# Altium footprint library PCB_General.PcbLib: 58 footprints (part 3 of 4)
Each footprint in its own frame and in the unit in brackets; x right, y up, seen from the top. Pads: shape width x height; smd on the part's side, far side on the other; paste and mask are expansions set on the pad; w line width, h text height; cw(c..) or ccw(c..) is an arc to the next point about the centre after c.
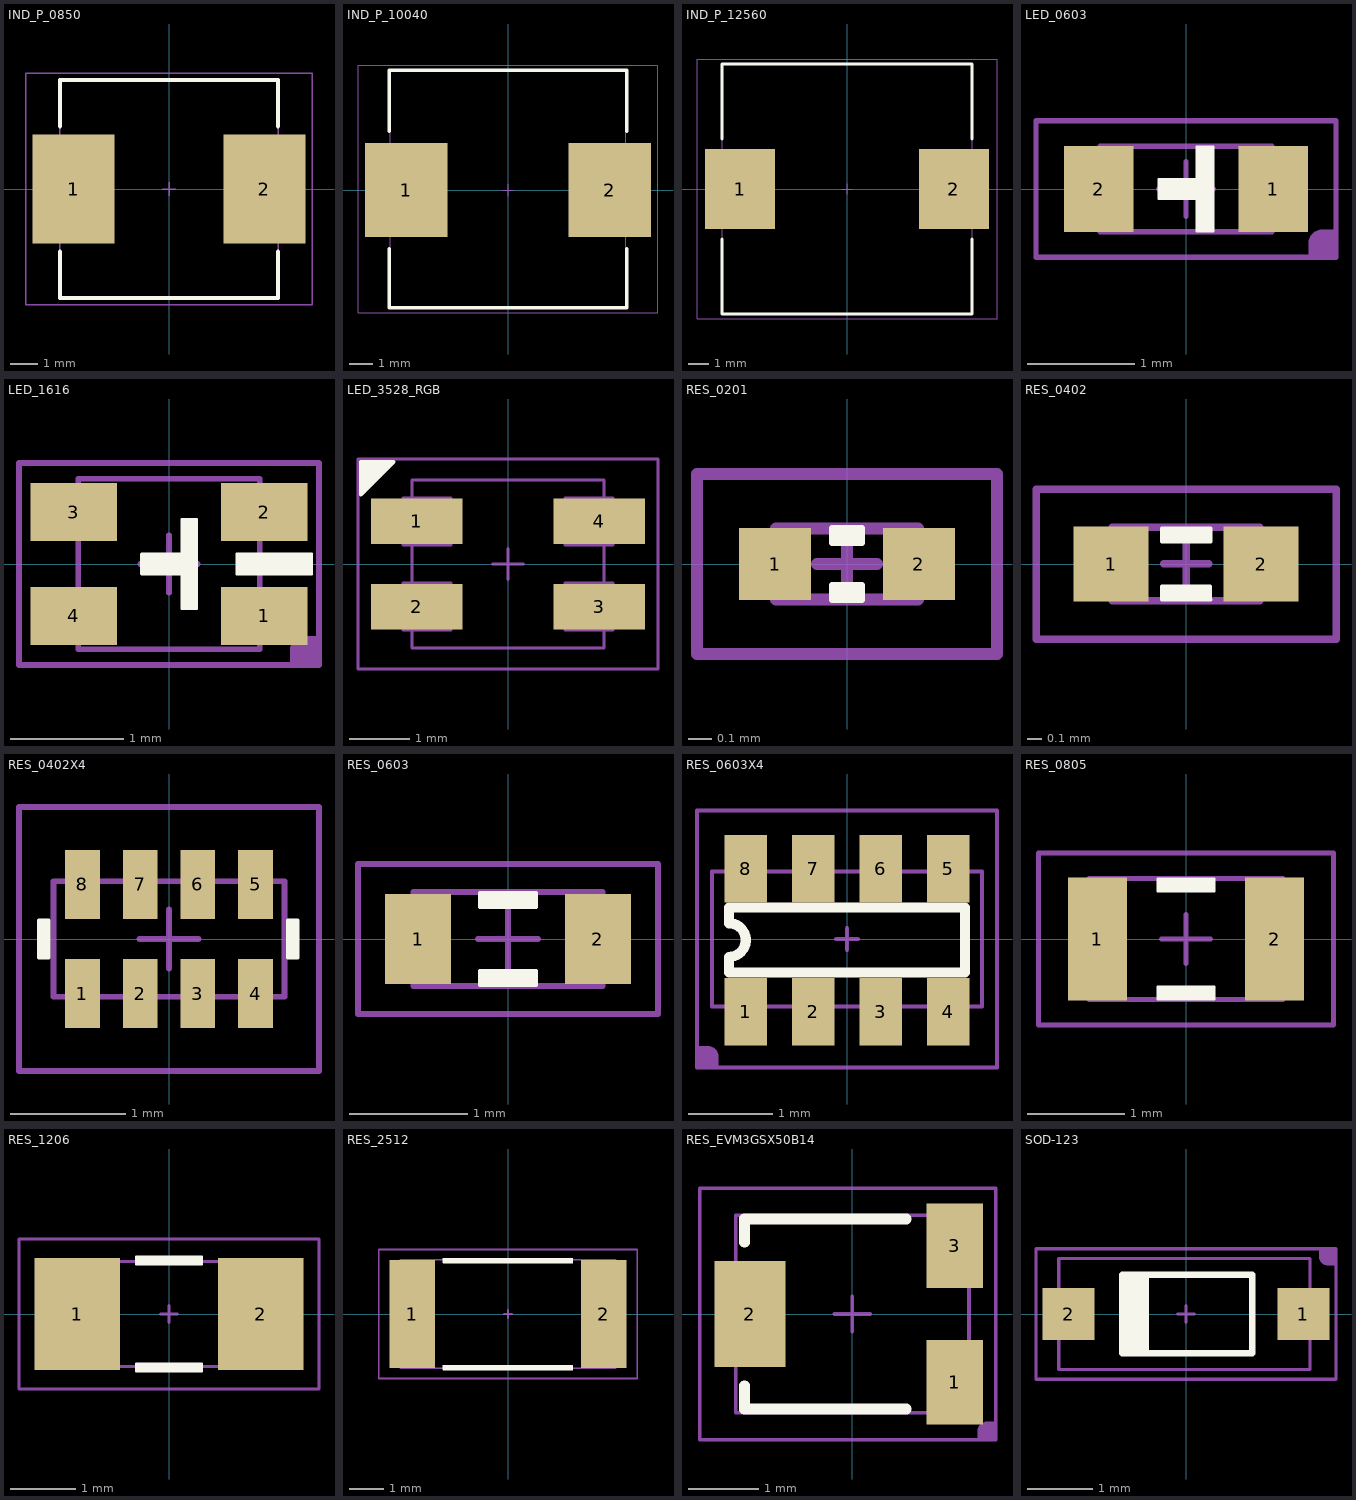
[diagram p2: the footprints below, top view; thin cyan lines are the x and y axes]

## IND_P_0850 [mm] "7.8*7.5*5.0MM(长*宽*高)"
pads (2):
  rect 3x4 smd: 1(-3.5,0) 2(3.5,0)
Top Overlay:
  lines w0.15: -4,-2.3 -4,-4 4,-4 4,-2.3 ; -4,2.3 -4,4 4,4 4,2.3
Top Assembly (Mech13):
  lines w0.051: -0.254,0 0.254,0 ; 0,-0.254 0,0.254 ; -4,-4 -4,4 4,4 4,-4 -4,-4
Top Component:
  lines w0.051: -5.25,-4.25 5.25,-4.25 5.25,4.25 -5.25,4.25 -5.25,-4.25
  text ".Designator" at -1.905,-0.508 h2.03
3D body: height 3, standoff 0, extent -4,-4 4,4

## IND_P_10040 [mm] "10.1*11.6*4.0MM(长*宽*高)"
pads (2):
  rect 3.5x4 smd: 1(-4.326,0) 2(4.326,0)
Top Overlay:
  lines w0.15: -5.051,-2.5 -5.051,-5 5.049,-5 5.049,-2.5 ; -5.051,2.5 -5.051,5.1 5.049,5.1 5.049,2.5
Top Assembly (Mech13):
  lines w0.051: -0.254,0 0.254,0 ; 0,-0.254 0,0.254 ; -5,-5 -5,5.075 5,5.075 5,-5 -5,-5
Top Component:
  lines w0.051: -6.375,-5.2 -6.375,5.3 6.375,5.3 6.375,-5.2 -6.375,-5.2
  text ".Designator" at -1.905,-0.508 h2.03
3D body: height 4, standoff 0, extent -5,-5 5,5.075

## IND_P_12560 [mm] "12.5*12.8*6.0MM(长*宽*高)"
pads (2):
  rect 3.5x4 smd: 1(-5.35,0) 2(5.35,0)
Top Overlay:
  lines w0.15: -6.25,-2.5 -6.25,-6.25 6.25,-6.25 6.25,-2.5 ; -6.25,2.5 -6.25,6.25 6.25,6.25 6.25,2.5
Top Assembly (Mech13):
  lines w0.051: -0.254,0 0.254,0 ; 0,-0.254 0,0.254 ; -6.25,-6.25 -6.25,6.25 6.25,6.25 6.25,-6.25 -6.25,-6.25
Top Component:
  lines w0.051: -7.5,-6.5 -7.5,6.5 7.5,6.5 7.5,-6.5 -7.5,-6.5
  text ".Designator" at -1.905,-0.508 h2.03
3D body: height 6, standoff 0, extent -6.25,-6.25 6.25,6.25

## LED_0603 [mm]
height 0.8
pads (2):
  rect 0.65x0.8 smd: 1(0.813,0) 2(-0.813,0)
Top Overlay:
  region: 0.254,-0.394 0.102,-0.394 0.102,-0.089 -0.254,-0.089 -0.254,0.089 0.102,0.089 0.102,0.394 0.254,0.394
  lines w0.025: -0.254,-0.089 0.102,-0.089 0.102,-0.394 0.254,-0.394 0.254,0.394 0.102,0.394 0.102,0.089 -0.254,0.089 -0.254,-0.089
Top Assembly (Mech13):
  lines w0.051: -0.254,0 0.254,0 ; 0,-0.254 0,0.254 ; -0.8,-0.4 0.8,-0.4 0.8,0.4 -0.8,0.4 -0.8,-0.4
Top Component:
  region: 1.397,-0.635 1.143,-0.635 1.143,-0.508 1.143,-0.483 1.162,-0.436 1.198,-0.4 1.245,-0.381 1.27,-0.381 1.397,-0.381
  lines w0.051: -1.397,-0.635 -1.397,0.635 1.397,0.635 1.397,-0.635 -1.397,-0.635
  text ".Designator" at -1.27,-0.381 h1.52
3D body "User Library-led_0603LED0603 red.STEP": height 0.6, standoff 0, extent -0.81,-0.4 0.81,0.4

## LED_1616 [mil]
height 47.24
pads (4):
  rect 30x20 smd: 1(33,-18) 2(33,18) 3(-33,18) 4(-33,-18)
Top Overlay:
  region: 9.5,-15.5 4.5,-15.5 4.5,-3.5 -9.5,-3.5 -9.5,3.5 4.5,3.5 4.5,15.5 9.5,15.5
  region: 49.5,3.5 23.5,3.5 23.5,-3.5 49.5,-3.5
  lines w1: -9.5,-3.5 -9.5,3.5 4.5,3.5 4.5,15.5 9.5,15.5 9.5,-15.5 4.5,-15.5 4.5,-3.5 -9.5,-3.5 ; 23.5,-3.5 49.5,-3.5 49.5,3.5 23.5,3.5 23.5,-3.5
Top Assembly (Mech13):
  lines w2: -10,0 10,0 ; 0,-10 0,10 ; -31.49,-29.52 -31.49,29.53 31.5,29.53 31.5,-29.52 -31.49,-29.52
Top Component:
  region: 52,-35 42,-35 42,-30 42,-29.01 42.76,-27.17 44.17,-25.76 46.01,-25 47,-25 52,-25
  lines w2: -52,-35 52,-35 52,35 -52,35 -52,-35
  text ".Designator" at -45,-20 h80
3D body "User Library-HSMF-C114.STEP": height 13.39, standoff -0.39, extent -31.49,-29.52 31.5,29.53

## LED_3528_RGB [mil]
height 47.24
pads (4):
  rect 60x30 smd: 1(-60,28) 2(-60,-28) 3(60,-28) 4(60,28)
Top Overlay:
  region: -96.69,67.16 -74.69,67.16 -96.69,45.16
  lines w2: -96.69,45.16 -74.69,67.16 -96.69,67.16 -96.69,45.16
Top Assembly (Mech13):
  lines w2: -62.99,-43.43 -62.99,-55.12 62.99,-55.12 62.99,-43.43 ; -62.99,-12.4 -62.99,12.4 ; -62.99,43.43 -62.99,55.12 62.99,55.12 62.99,43.43 ; -10,0 10,0 ; 0,-10 0,10 ; 62.99,-12.4 62.99,12.4 ; -68.9,-43.31 -68.9,-12.4 -37.4,-12.4 -37.4,-43.31 -68.9,-43.31 ; -68.9,12.4 -68.9,43.31 -37.4,43.31 -37.4,12.4 -68.9,12.4 ; 37.4,-43.31 37.4,-12.4 68.9,-12.4 68.9,-43.31 37.4,-43.31 ; 37.4,12.4 37.4,43.31 68.9,43.31 68.9,12.4 37.4,12.4
Top Component:
  region: -98.43,68.9 -88.43,68.9 -88.43,63.9 -88.43,62.9 -89.19,61.07 -90.59,59.66 -92.43,58.9 -93.43,58.9 -98.43,58.9
  lines w2: -98.43,-68.9 98.43,-68.9 98.43,68.9 -98.43,68.9 -98.43,-68.9
  text ".Designator" at -65,-20 h80
3D body "User Library-KAA-3528.STEP": height 74.8, standoff 0, extent -68.9,-55.12 68.9,55.11

## RES_0201 [mil]
height 9.06
pads (2):
  rect 12x12 smd: 1(-12,0) 2(12,0)
Top Overlay:
  region: -2.5,6 2.5,6 2.5,3.5 -2.5,3.5
  region: 2.5,-6 -2.5,-6 -2.5,-3.5 2.5,-3.5
  lines w1: -2.5,-6 -2.5,-3.5 2.5,-3.5 2.5,-6 -2.5,-6 ; -2.5,3.5 2.5,3.5 2.5,6 -2.5,6 -2.5,3.5
Top Assembly (Mech13):
  lines w2: -5,0 5,0 ; 0,-5 0,5 ; -11.81,-5.91 -11.81,5.91 11.81,5.91 11.81,-5.91 -11.81,-5.91
Top Component:
  lines w2: -25,-15 -25,15 25,15 25,-15 -25,-15
  text ".Designator" at -20,-10 h30
3D body "RESC0603X02L.step": height 9.06, standoff 0, extent -11.81,-5.9 11.81,5.91

## RES_0402 [mil]
height 13.78
pads (2):
  rect 20x20 smd: 1(-20,0) 2(20,0)
Top Overlay:
  region: 6.5,-9.5 -6.5,-9.5 -6.5,-6 6.5,-6
  region: -6.5,9.5 6.5,9.5 6.5,6 -6.5,6
  lines w1: -6.5,-9.5 6.5,-9.5 6.5,-6 -6.5,-6 -6.5,-9.5 ; -6.5,6 -6.5,9.5 6.5,9.5 6.5,6 -6.5,6
Top Assembly (Mech13):
  lines w2: -6,0 6,0 ; 0,-6 0,6 ; -19.69,-9.84 -19.69,9.84 19.68,9.84 19.68,-9.84 -19.69,-9.84
Top Component:
  lines w2: -40,-20 40,-20 40,20 -40,20 -40,-20
  text ".Designator" at -35,-10 h40
3D body "RESC1005X03L.step": height 13.78, standoff 0, extent -19.68,-9.84 19.69,9.85

## RES_0402X4 [mm] "Chip Array, Concave, 8-Leads, Pitch 0.50mm,  Body 2.00x1.00mm,  IPC Medium Density"
height 0.55
pads (8):
  rect 0.3x0.6 smd: 1(-0.75,-0.473) 2(-0.25,-0.473) 3(0.25,-0.473) 4(0.75,-0.473) 5(0.75,0.473) 6(0.25,0.473) 7(-0.25,0.473) 8(-0.75,0.473)
Top Overlay:
  region: 1.029,-0.165 1.029,0.165 1.118,0.165 1.118,-0.165
  region: -1.13,-0.165 -1.13,0.165 -1.041,0.165 -1.041,-0.165
  lines w0.025: -1.13,-0.165 -1.13,0.165 -1.041,0.165 -1.041,-0.165 -1.13,-0.165 ; 1.029,-0.165 1.029,0.165 1.118,0.165 1.118,-0.165 1.029,-0.165
Top Assembly (Mech13):
  lines w0.051: -0.254,0 0.254,0 ; 0,-0.254 0,0.254 ; -1,-0.5 1,-0.5 1,0.5 0.389,0.5 -1,0.5 -1,-0.5
Top Component:
  lines w0.05: -1.3,-1.143 -1.3,1.143 1.3,1.143 1.3,-1.143 -1.3,-1.143
  text ".Designator" at -0.508,-0.254 h1.02
3D body "User Library-YC124-1.step": height 0.45, standoff 0, extent -1,-0.5 1,0.5

## RES_0603 [mil]
height 17.72
pads (2):
  rect 22x30 smd: 1(-30,0) 2(30,0)
Top Overlay:
  region: -9.5,15.5 9.5,15.5 9.5,10.5 -9.5,10.5
  region: 9.5,-15.5 -9.5,-15.5 -9.5,-10.5 9.5,-10.5
  lines w1: -9.5,-15.5 9.5,-15.5 9.5,-10.5 -9.5,-10.5 -9.5,-15.5 ; -9.5,10.5 -9.5,15.5 9.5,15.5 9.5,10.5 -9.5,10.5
Top Assembly (Mech13):
  lines w2: -10,0 10,0 ; 0,-10 0,10 ; -31.5,-15.75 -31.5,15.75 31.5,15.75 31.5,-15.75 -31.5,-15.75
Top Component:
  lines w2: -50,-25 50,-25 50,25 -50,25 -50,-25
  text ".Designator" at -45,-15 h60
3D body "RESC1608X05L.step": height 17.72, standoff 0, extent -31.49,-15.74 31.5,15.75

## RES_0603X4 [mm]
pads (8):
  rect 0.5x0.8 smd: 1(-1.2,-0.865) 2(-0.4,-0.865) 3(0.4,-0.865) 4(1.2,-0.865) 5(1.2,0.835) 6(0.4,0.835) 7(-0.4,0.835) 8(-1.2,0.835)
Top Overlay:
  lines w0.12: -1.4,-0.398 -1.4,-0.213 ccw(c-1.4,-0.013) -1.4,0.187 -1.4,0.372 1.4,0.372 1.4,-0.398 -1.4,-0.398
Top Assembly (Mech13):
  lines w0.051: -0.127,0 0.127,0 ; 0,-0.127 0,0.127 ; -1.6,-0.8 -1.6,0.8 1.6,0.8 1.6,-0.8 -1.6,-0.8
Top Component:
  region: -1.778,-1.524 -1.778,-1.27 -1.651,-1.27 -1.626,-1.27 -1.579,-1.289 -1.543,-1.325 -1.524,-1.372 -1.524,-1.397 -1.524,-1.524
  lines w0.051: -1.778,-1.524 -1.778,1.524 1.778,1.524 1.778,-1.524 -1.778,-1.524
  text ".Designator" at -1.016,-0.381 h1.52
3D body "User Library-R-0603-Array-4-1.SLDPRT": height 0.51, standoff -0.01, extent -1.6,-0.8 1.6,0.8

## RES_0805 [mil]
height 23.62
pads (2):
  rect 24x50 smd: 1(-36,0) 2(36,0)
Top Overlay:
  region: -11.5,24.5 11.5,24.5 11.5,19.5 -11.5,19.5
  region: 11.5,-24.5 -11.5,-24.5 -11.5,-19.5 11.5,-19.5
  lines w1: -11.5,-24.5 -11.5,-19.5 11.5,-19.5 11.5,-24.5 -11.5,-24.5 ; -11.5,19.5 11.5,19.5 11.5,24.5 -11.5,24.5 -11.5,19.5
Top Assembly (Mech13):
  lines w2: -10,0 10,0 ; 0,-10 0,10 ; -39.37,-24.61 -39.37,24.61 39.37,24.61 39.37,-24.61 -39.37,-24.61
Top Component:
  lines w2: -60,-35 60,-35 60,35 -60,35 -60,-35
  text ".Designator" at -50,-20 h80
3D body "RESC2012X06L.step": height 23.62, standoff 0, extent -39.37,-24.6 39.37,24.61

## RES_1206 [mm]
height 1.23
pads (2):
  rect 1.3x1.7 smd: 1(-1.4,0) 2(1.4,0)
Top Overlay:
  region: -0.508,0.876 0.508,0.876 0.508,0.749 -0.508,0.749
  region: 0.508,-0.876 -0.508,-0.876 -0.508,-0.749 0.508,-0.749
  lines w0.025: -0.508,-0.876 -0.508,-0.749 0.508,-0.749 0.508,-0.876 -0.508,-0.876 ; -0.508,0.749 0.508,0.749 0.508,0.876 -0.508,0.876 -0.508,0.749
Top Assembly (Mech13):
  lines w0.051: -0.127,0 0.127,0 ; 0,-0.127 0,0.127 ; -1.6,-0.8 1.6,-0.8 1.6,0.8 -1.6,0.8 -1.6,-0.8
Top Component:
  lines w0.051: -2.286,-1.143 2.286,-1.143 2.286,1.143 -2.286,1.143 -2.286,-1.143
  text ".Designator" at -2.032,-0.508 h2.03
3D body "R_1206.STEP": height 1.01, standoff -0.01, extent -1.6,-0.8 1.6,0.8

## RES_2512 [mm]
pads (2):
  rect 1.35x3.2 smd: 1(-2.825,0) 2(2.825,0)
Top Overlay:
  region: 1.905,-1.638 -1.905,-1.638 -1.905,-1.511 1.905,-1.511
  region: -1.905,1.638 1.905,1.638 1.905,1.511 -1.905,1.511
  lines w0.025: -1.905,-1.638 1.905,-1.638 1.905,-1.511 -1.905,-1.511 -1.905,-1.638 ; -1.905,1.511 -1.905,1.638 1.905,1.638 1.905,1.511 -1.905,1.511
Top Assembly (Mech13):
  lines w0.051: -0.127,0 0.127,0 ; 0,-0.127 0,0.127 ; -3.175,-1.6 -3.175,1.6 3.175,1.6 3.175,-1.6 -3.175,-1.6
Top Component:
  lines w0.051: -3.81,-1.905 -3.81,1.905 3.81,1.905 3.81,-1.905 -3.81,-1.905
  text ".Designator" at -1.524,-0.508 h2.03
3D body "R_2512.STEP": height 0.66, standoff -0.01, extent -3.175,-1.6 3.175,1.6

## RES_EVM3GSX50B14 [mm]
height 1.003
pads (3):
  rect 0.8x1.2 smd: 1(1.448,-0.965) 3(1.448,0.965)
  rect 1x1.5 smd: 2(-1.448,0)
Top Overlay:
  lines w0.152: -1.524,-1.016 -1.524,-1.346 0.762,-1.346 ; -1.524,1.016 -1.524,1.346 0.762,1.346
Top Assembly (Mech13):
  lines w0.051: -0.254,0 0.254,0 ; 0,-0.254 0,0.254 ; -1.651,-1.4 1.651,-1.4 1.651,1.4 -1.651,1.4 -1.651,-1.4
Top Component:
  region: 2.032,-1.778 1.778,-1.778 1.778,-1.651 1.778,-1.626 1.797,-1.579 1.833,-1.543 1.88,-1.524 1.905,-1.524 2.032,-1.524
  lines w0.051: -2.159,-1.778 2.032,-1.778 2.032,1.778 -2.159,1.778 -2.159,-1.778
  text ".Designator" at -1.295,-0.635 h2.03

## SOD-123 [mm]
pads (2):
  rect 0.8x0.8 smd: 1(1.8,0) 2(-1.8,0)
Top Overlay:
  region: -1.025,-0.6 -1.025,0.6 -0.575,0.6 -0.575,-0.6
  lines w0.1: -0.975,-0.6 1.016,-0.6 1.016,0.6 -0.975,0.6
Top Assembly (Mech13):
  lines w0.051: -0.127,0 0.127,0 ; 0,-0.127 0,0.127 ; -1.95,-0.85 -1.95,0.85 1.9,0.85 1.9,-0.85 -1.95,-0.85
Top Component:
  region: 2.3,1 2.3,0.746 2.173,0.746 2.148,0.746 2.101,0.765 2.065,0.801 2.046,0.848 2.046,0.873 2.046,1
  lines w0.051: -2.3,-1 2.3,-1 2.3,1 -2.3,1 -2.3,-1
  text ".Designator" at -1.422,-0.508 h2.03
3D body "User Library-SOD-123_DiodesInc.STEP": height 1.42, standoff -0.03, extent -1.95,-0.85 1.9,0.85